# Altium schematic symbol library Converter_DCDC.SchLib: 544 symbols (part 3 of 6)
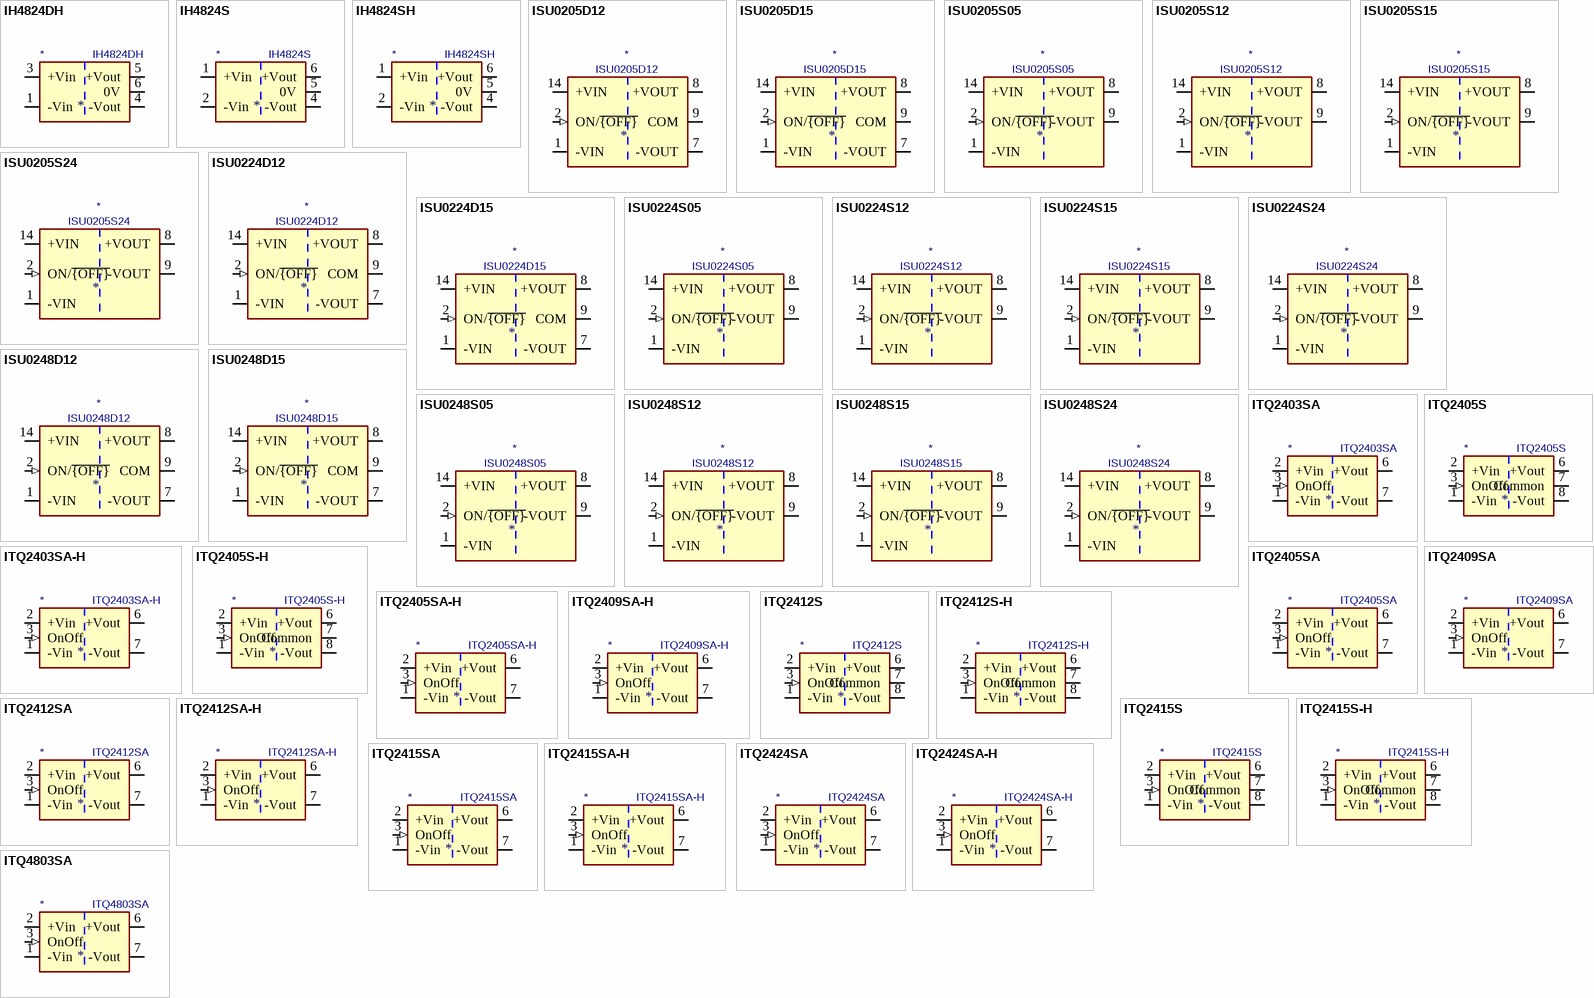
[diagram p15: symbols IH4824DH to ITQ4803SA]

## ITQ2412SA-H
designator *  value ITQ2412SA-H
ki_keywords: XP_POWER DC/DC isolated Converter module; ki_description: XP Power 6W, 3000 VDC Isolated DC/DC Converter Module, Single Output Voltage 12V, ±500mA, 24V Input Voltage, SIP; ki_fp_filters: *XP?POWER?ITQxxxxS?H*; Footprint: Converter_DCDC:Converter_DCDC_XP_POWER-ITQxxxxS-H_THT; Supplier: https://www.xppower.com/pdfs/SF_ITQ.pdf
footprint Converter_DCDC_XP_POWER-ITQxxxxS-H_THT
pins: 1 -Vin (power), 2 +Vin (power), 3 OnOff (in), 6 +Vout (power), 7 -Vout (power), 8 NC (in) hidden

## ITQ2415S
designator *  value ITQ2415S
ki_keywords: XP_POWER DC/DC isolated Converter module; ki_description: XP Power 6W, 1000 VDC Isolated DC/DC Converter Module, Dual Output Voltage ±15V, ±200mA, 24V Input Voltage, SIP; ki_fp_filters: *XP?POWER?ITxxxxx*; Footprint: Converter_DCDC:Converter_DCDC_XP_POWER-ITxxxxxS_THT; Supplier: https://www.xppower.com/pdfs/SF_ITQ.pdf
footprint Converter_DCDC_XP_POWER-ITxxxxxS_THT
pins: 1 -Vin (power), 2 +Vin (power), 3 OnOff (in), 5 NC (in) hidden, 6 +Vout (power), 7 Common (power), 8 -Vout (power)

## ITQ2415S-H
designator *  value ITQ2415S-H
ki_keywords: XP_POWER DC/DC isolated Converter module; ki_description: XP Power 6W, 3000 VDC Isolated DC/DC Converter Module, Dual Output Voltage ±15V, ±200mA, 24V Input Voltage, SIP; ki_fp_filters: *XP?POWER?ITQxxxxS?H*; Footprint: Converter_DCDC:Converter_DCDC_XP_POWER-ITQxxxxS-H_THT; Supplier: https://www.xppower.com/pdfs/SF_ITQ.pdf
footprint Converter_DCDC_XP_POWER-ITQxxxxS-H_THT
pins: 1 -Vin (power), 2 +Vin (power), 3 OnOff (in), 6 +Vout (power), 7 Common (power), 8 -Vout (power)

## ITQ2415SA
designator *  value ITQ2415SA
ki_keywords: XP_POWER DC/DC isolated Converter module; ki_description: XP Power 6W, 1000 VDC Isolated DC/DC Converter Module, Single Output Voltage 15V, ±400mA, 24V Input Voltage, SIP; ki_fp_filters: *XP?POWER?ITxxxxx*; Footprint: Converter_DCDC:Converter_DCDC_XP_POWER-ITxxxxxS_THT; Supplier: https://www.xppower.com/pdfs/SF_ITQ.pdf
footprint Converter_DCDC_XP_POWER-ITxxxxxS_THT
pins: 1 -Vin (power), 2 +Vin (power), 3 OnOff (in), 5 NC (in) hidden, 6 +Vout (power), 7 -Vout (power), 8 NC (in) hidden

## ITQ2415SA-H
designator *  value ITQ2415SA-H
ki_keywords: XP_POWER DC/DC isolated Converter module; ki_description: XP Power 6W, 3000 VDC Isolated DC/DC Converter Module, Single Output Voltage 15V, ±400mA, 24V Input Voltage, SIP; ki_fp_filters: *XP?POWER?ITQxxxxS?H*; Footprint: Converter_DCDC:Converter_DCDC_XP_POWER-ITQxxxxS-H_THT; Supplier: https://www.xppower.com/pdfs/SF_ITQ.pdf
footprint Converter_DCDC_XP_POWER-ITQxxxxS-H_THT
pins: 1 -Vin (power), 2 +Vin (power), 3 OnOff (in), 6 +Vout (power), 7 -Vout (power), 8 NC (in) hidden

## ITQ2424SA
designator *  value ITQ2424SA
ki_keywords: XP_POWER DC/DC isolated Converter module; ki_description: XP Power 6W, 1000 VDC Isolated DC/DC Converter Module, Single Output Voltage 24V, ±250mA, 24V Input Voltage, SIP; ki_fp_filters: *XP?POWER?ITxxxxx*; Footprint: Converter_DCDC:Converter_DCDC_XP_POWER-ITxxxxxS_THT; Supplier: https://www.xppower.com/pdfs/SF_ITQ.pdf
footprint Converter_DCDC_XP_POWER-ITxxxxxS_THT
pins: 1 -Vin (power), 2 +Vin (power), 3 OnOff (in), 5 NC (in) hidden, 6 +Vout (power), 7 -Vout (power), 8 NC (in) hidden

## ITQ2424SA-H
designator *  value ITQ2424SA-H
ki_keywords: XP_POWER DC/DC isolated Converter module; ki_description: XP Power 6W, 3000 VDC Isolated DC/DC Converter Module, Single Output Voltage 24V, ±250mA, 24V Input Voltage, SIP; ki_fp_filters: *XP?POWER?ITQxxxxS?H*; Footprint: Converter_DCDC:Converter_DCDC_XP_POWER-ITQxxxxS-H_THT; Supplier: https://www.xppower.com/pdfs/SF_ITQ.pdf
footprint Converter_DCDC_XP_POWER-ITQxxxxS-H_THT
pins: 1 -Vin (power), 2 +Vin (power), 3 OnOff (in), 6 +Vout (power), 7 -Vout (power), 8 NC (in) hidden

## ITQ4803SA
designator *  value ITQ4803SA
ki_keywords: XP_POWER DC/DC isolated Converter module; ki_description: XP Power 6W, 1000 VDC Isolated DC/DC Converter Module, Single Output Voltage 3.3V, ±1500mA, 48V Input Voltage, SIP; ki_fp_filters: *XP?POWER?ITxxxxx*; Footprint: Converter_DCDC:Converter_DCDC_XP_POWER-ITxxxxxS_THT; Supplier: https://www.xppower.com/pdfs/SF_ITQ.pdf
footprint Converter_DCDC_XP_POWER-ITxxxxxS_THT
pins: 1 -Vin (power), 2 +Vin (power), 3 OnOff (in), 5 NC (in) hidden, 6 +Vout (power), 7 -Vout (power), 8 NC (in) hidden

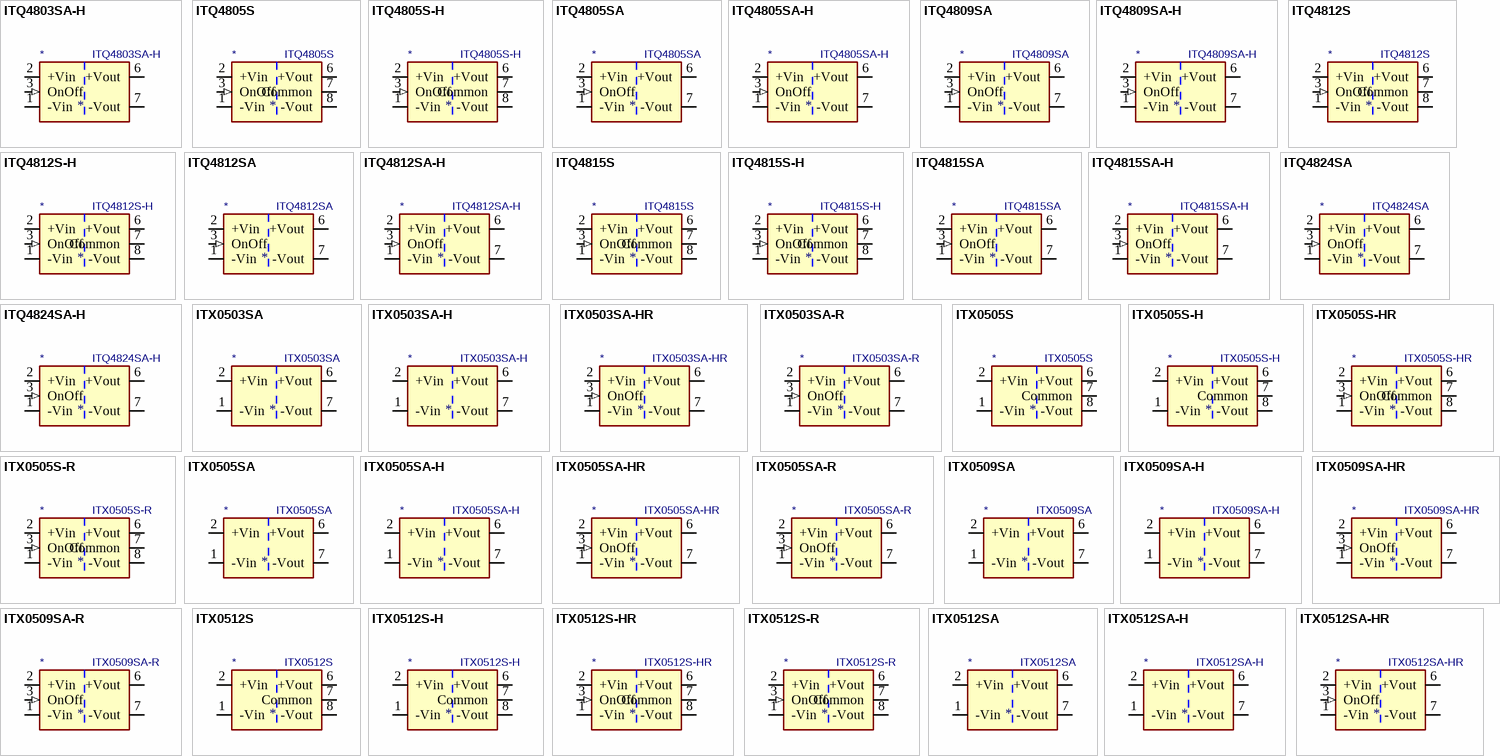
[diagram p5: symbols ITQ4803SA-H to ITX0512SA-HR]

## ITQ4803SA-H
designator *  value ITQ4803SA-H
ki_keywords: XP_POWER DC/DC isolated Converter module; ki_description: XP Power 6W, 3000 VDC Isolated DC/DC Converter Module, Single Output Voltage 3.3V, ±1500mA, 48V Input Voltage, SIP; ki_fp_filters: *XP?POWER?ITQxxxxS?H*; Footprint: Converter_DCDC:Converter_DCDC_XP_POWER-ITQxxxxS-H_THT; Supplier: https://www.xppower.com/pdfs/SF_ITQ.pdf
footprint Converter_DCDC_XP_POWER-ITQxxxxS-H_THT
pins: 1 -Vin (power), 2 +Vin (power), 3 OnOff (in), 6 +Vout (power), 7 -Vout (power), 8 NC (in) hidden

## ITQ4805S
designator *  value ITQ4805S
ki_keywords: XP_POWER DC/DC isolated Converter module; ki_description: XP Power 6W, 1000 VDC Isolated DC/DC Converter Module, Dual Output Voltage ±5V, ±600mA, 48V Input Voltage, SIP; ki_fp_filters: *XP?POWER?ITxxxxx*; Footprint: Converter_DCDC:Converter_DCDC_XP_POWER-ITxxxxxS_THT; Supplier: https://www.xppower.com/pdfs/SF_ITQ.pdf
footprint Converter_DCDC_XP_POWER-ITxxxxxS_THT
pins: 1 -Vin (power), 2 +Vin (power), 3 OnOff (in), 5 NC (in) hidden, 6 +Vout (power), 7 Common (power), 8 -Vout (power)

## ITQ4805S-H
designator *  value ITQ4805S-H
ki_keywords: XP_POWER DC/DC isolated Converter module; ki_description: XP Power 6W, 3000 VDC Isolated DC/DC Converter Module, Dual Output Voltage ±5V, ±600mA, 48V Input Voltage, SIP; ki_fp_filters: *XP?POWER?ITQxxxxS?H*; Footprint: Converter_DCDC:Converter_DCDC_XP_POWER-ITQxxxxS-H_THT; Supplier: https://www.xppower.com/pdfs/SF_ITQ.pdf
footprint Converter_DCDC_XP_POWER-ITQxxxxS-H_THT
pins: 1 -Vin (power), 2 +Vin (power), 3 OnOff (in), 6 +Vout (power), 7 Common (power), 8 -Vout (power)

## ITQ4805SA
designator *  value ITQ4805SA
ki_keywords: XP_POWER DC/DC isolated Converter module; ki_description: XP Power 6W, 1000 VDC Isolated DC/DC Converter Module, Single Output Voltage 5V, ±1200mA, 48V Input Voltage, SIP; ki_fp_filters: *XP?POWER?ITxxxxx*; Footprint: Converter_DCDC:Converter_DCDC_XP_POWER-ITxxxxxS_THT; Supplier: https://www.xppower.com/pdfs/SF_ITQ.pdf
footprint Converter_DCDC_XP_POWER-ITxxxxxS_THT
pins: 1 -Vin (power), 2 +Vin (power), 3 OnOff (in), 5 NC (in) hidden, 6 +Vout (power), 7 -Vout (power), 8 NC (in) hidden

## ITQ4805SA-H
designator *  value ITQ4805SA-H
ki_keywords: XP_POWER DC/DC isolated Converter module; ki_description: XP Power 6W, 3000 VDC Isolated DC/DC Converter Module, Single Output Voltage 5V, ±1200mA, 48V Input Voltage, SIP; ki_fp_filters: *XP?POWER?ITQxxxxS?H*; Footprint: Converter_DCDC:Converter_DCDC_XP_POWER-ITQxxxxS-H_THT; Supplier: https://www.xppower.com/pdfs/SF_ITQ.pdf
footprint Converter_DCDC_XP_POWER-ITQxxxxS-H_THT
pins: 1 -Vin (power), 2 +Vin (power), 3 OnOff (in), 6 +Vout (power), 7 -Vout (power), 8 NC (in) hidden

## ITQ4809SA
designator *  value ITQ4809SA
ki_keywords: XP_POWER DC/DC isolated Converter module; ki_description: XP Power 6W, 1000 VDC Isolated DC/DC Converter Module, Single Output Voltage 9V, ±666mA, 48V Input Voltage, SIP; ki_fp_filters: *XP?POWER?ITxxxxx*; Footprint: Converter_DCDC:Converter_DCDC_XP_POWER-ITxxxxxS_THT; Supplier: https://www.xppower.com/pdfs/SF_ITQ.pdf
footprint Converter_DCDC_XP_POWER-ITxxxxxS_THT
pins: 1 -Vin (power), 2 +Vin (power), 3 OnOff (in), 5 NC (in) hidden, 6 +Vout (power), 7 -Vout (power), 8 NC (in) hidden

## ITQ4809SA-H
designator *  value ITQ4809SA-H
ki_keywords: XP_POWER DC/DC isolated Converter module; ki_description: XP Power 6W, 3000 VDC Isolated DC/DC Converter Module, Single Output Voltage 9V, ±666mA, 48V Input Voltage, SIP; ki_fp_filters: *XP?POWER?ITQxxxxS?H*; Footprint: Converter_DCDC:Converter_DCDC_XP_POWER-ITQxxxxS-H_THT; Supplier: https://www.xppower.com/pdfs/SF_ITQ.pdf
footprint Converter_DCDC_XP_POWER-ITQxxxxS-H_THT
pins: 1 -Vin (power), 2 +Vin (power), 3 OnOff (in), 6 +Vout (power), 7 -Vout (power), 8 NC (in) hidden

## ITQ4812S
designator *  value ITQ4812S
ki_keywords: XP_POWER DC/DC isolated Converter module; ki_description: XP Power 6W, 1000 VDC Isolated DC/DC Converter Module, Dual Output Voltage ±12V, ±250mA, 48V Input Voltage, SIP; ki_fp_filters: *XP?POWER?ITxxxxx*; Footprint: Converter_DCDC:Converter_DCDC_XP_POWER-ITxxxxxS_THT; Supplier: https://www.xppower.com/pdfs/SF_ITQ.pdf
footprint Converter_DCDC_XP_POWER-ITxxxxxS_THT
pins: 1 -Vin (power), 2 +Vin (power), 3 OnOff (in), 5 NC (in) hidden, 6 +Vout (power), 7 Common (power), 8 -Vout (power)

## ITQ4812S-H
designator *  value ITQ4812S-H
ki_keywords: XP_POWER DC/DC isolated Converter module; ki_description: XP Power 6W, 3000 VDC Isolated DC/DC Converter Module, Dual Output Voltage ±12V, ±250mA, 48V Input Voltage, SIP; ki_fp_filters: *XP?POWER?ITQxxxxS?H*; Footprint: Converter_DCDC:Converter_DCDC_XP_POWER-ITQxxxxS-H_THT; Supplier: https://www.xppower.com/pdfs/SF_ITQ.pdf
footprint Converter_DCDC_XP_POWER-ITQxxxxS-H_THT
pins: 1 -Vin (power), 2 +Vin (power), 3 OnOff (in), 6 +Vout (power), 7 Common (power), 8 -Vout (power)

## ITQ4812SA
designator *  value ITQ4812SA
ki_keywords: XP_POWER DC/DC isolated Converter module; ki_description: XP Power 6W, 1000 VDC Isolated DC/DC Converter Module, Single Output Voltage 12V, ±500mA, 48V Input Voltage, SIP; ki_fp_filters: *XP?POWER?ITxxxxx*; Footprint: Converter_DCDC:Converter_DCDC_XP_POWER-ITxxxxxS_THT; Supplier: https://www.xppower.com/pdfs/SF_ITQ.pdf
footprint Converter_DCDC_XP_POWER-ITxxxxxS_THT
pins: 1 -Vin (power), 2 +Vin (power), 3 OnOff (in), 5 NC (in) hidden, 6 +Vout (power), 7 -Vout (power), 8 NC (in) hidden

## ITQ4812SA-H
designator *  value ITQ4812SA-H
ki_keywords: XP_POWER DC/DC isolated Converter module; ki_description: XP Power 6W, 3000 VDC Isolated DC/DC Converter Module, Single Output Voltage 12V, ±500mA, 48V Input Voltage, SIP; ki_fp_filters: *XP?POWER?ITQxxxxS?H*; Footprint: Converter_DCDC:Converter_DCDC_XP_POWER-ITQxxxxS-H_THT; Supplier: https://www.xppower.com/pdfs/SF_ITQ.pdf
footprint Converter_DCDC_XP_POWER-ITQxxxxS-H_THT
pins: 1 -Vin (power), 2 +Vin (power), 3 OnOff (in), 6 +Vout (power), 7 -Vout (power), 8 NC (in) hidden

## ITQ4815S
designator *  value ITQ4815S
ki_keywords: XP_POWER DC/DC isolated Converter module; ki_description: XP Power 6W, 1000 VDC Isolated DC/DC Converter Module, Dual Output Voltage ±15V, ±200mA, 48V Input Voltage, SIP; ki_fp_filters: *XP?POWER?ITxxxxx*; Footprint: Converter_DCDC:Converter_DCDC_XP_POWER-ITxxxxxS_THT; Supplier: https://www.xppower.com/pdfs/SF_ITQ.pdf
footprint Converter_DCDC_XP_POWER-ITxxxxxS_THT
pins: 1 -Vin (power), 2 +Vin (power), 3 OnOff (in), 5 NC (in) hidden, 6 +Vout (power), 7 Common (power), 8 -Vout (power)

## ITQ4815S-H
designator *  value ITQ4815S-H
ki_keywords: XP_POWER DC/DC isolated Converter module; ki_description: XP Power 6W, 3000 VDC Isolated DC/DC Converter Module, Dual Output Voltage ±15V, ±200mA, 48V Input Voltage, SIP; ki_fp_filters: *XP?POWER?ITQxxxxS?H*; Footprint: Converter_DCDC:Converter_DCDC_XP_POWER-ITQxxxxS-H_THT; Supplier: https://www.xppower.com/pdfs/SF_ITQ.pdf
footprint Converter_DCDC_XP_POWER-ITQxxxxS-H_THT
pins: 1 -Vin (power), 2 +Vin (power), 3 OnOff (in), 6 +Vout (power), 7 Common (power), 8 -Vout (power)

## ITQ4815SA
designator *  value ITQ4815SA
ki_keywords: XP_POWER DC/DC isolated Converter module; ki_description: XP Power 6W, 1000 VDC Isolated DC/DC Converter Module, Single Output Voltage 15V, ±400mA, 48V Input Voltage, SIP; ki_fp_filters: *XP?POWER?ITxxxxx*; Footprint: Converter_DCDC:Converter_DCDC_XP_POWER-ITxxxxxS_THT; Supplier: https://www.xppower.com/pdfs/SF_ITQ.pdf
footprint Converter_DCDC_XP_POWER-ITxxxxxS_THT
pins: 1 -Vin (power), 2 +Vin (power), 3 OnOff (in), 5 NC (in) hidden, 6 +Vout (power), 7 -Vout (power), 8 NC (in) hidden

## ITQ4815SA-H
designator *  value ITQ4815SA-H
ki_keywords: XP_POWER DC/DC isolated Converter module; ki_description: XP Power 6W, 3000 VDC Isolated DC/DC Converter Module, Single Output Voltage 15V, ±400mA, 48V Input Voltage, SIP; ki_fp_filters: *XP?POWER?ITQxxxxS?H*; Footprint: Converter_DCDC:Converter_DCDC_XP_POWER-ITQxxxxS-H_THT; Supplier: https://www.xppower.com/pdfs/SF_ITQ.pdf
footprint Converter_DCDC_XP_POWER-ITQxxxxS-H_THT
pins: 1 -Vin (power), 2 +Vin (power), 3 OnOff (in), 6 +Vout (power), 7 -Vout (power), 8 NC (in) hidden

## ITQ4824SA
designator *  value ITQ4824SA
ki_keywords: XP_POWER DC/DC isolated Converter module; ki_description: XP Power 6W, 1000 VDC Isolated DC/DC Converter Module, Single Output Voltage 24V, ±250mA, 48V Input Voltage, SIP; ki_fp_filters: *XP?POWER?ITxxxxx*; Footprint: Converter_DCDC:Converter_DCDC_XP_POWER-ITxxxxxS_THT; Supplier: https://www.xppower.com/pdfs/SF_ITQ.pdf
footprint Converter_DCDC_XP_POWER-ITxxxxxS_THT
pins: 1 -Vin (power), 2 +Vin (power), 3 OnOff (in), 5 NC (in) hidden, 6 +Vout (power), 7 -Vout (power), 8 NC (in) hidden

## ITQ4824SA-H
designator *  value ITQ4824SA-H
ki_keywords: XP_POWER DC/DC isolated Converter module; ki_description: XP Power 6W, 3000 VDC Isolated DC/DC Converter Module, Single Output Voltage 24V, ±250mA, 48V Input Voltage, SIP; ki_fp_filters: *XP?POWER?ITQxxxxS?H*; Footprint: Converter_DCDC:Converter_DCDC_XP_POWER-ITQxxxxS-H_THT; Supplier: https://www.xppower.com/pdfs/SF_ITQ.pdf
footprint Converter_DCDC_XP_POWER-ITQxxxxS-H_THT
pins: 1 -Vin (power), 2 +Vin (power), 3 OnOff (in), 6 +Vout (power), 7 -Vout (power), 8 NC (in) hidden

## ITX0503SA
designator *  value ITX0503SA
ki_keywords: XP_POWER DC/DC isolated Converter module; ki_description: XP Power 6W, 1000 VDC Isolated DC/DC Converter Module, Fully Regulated Single Output Voltage 3.3V, ±1300mA, 5V Input Voltage, SIP; ki_fp_filters: *XP?POWER?ITXxxxxSA*; Footprint: Converter_DCDC:Converter_DCDC_XP_POWER-ITXxxxxSA_THT; Supplier: https://www.xppower.com/pdfs/SF_ITX.pdf
footprint Converter_DCDC_XP_POWER-ITXxxxxSA_THT
pins: 1 -Vin (power), 2 +Vin (power), 6 +Vout (power), 7 -Vout (power), 8 NC (in) hidden

## ITX0503SA-H
designator *  value ITX0503SA-H
ki_keywords: XP_POWER DC/DC isolated Converter module; ki_description: XP Power 6W, 3000 VDC Isolated DC/DC Converter Module, Fully Regulated Single Output Voltage 3.3V, ±1300mA, 5V Input Voltage, SIP; ki_fp_filters: *XP?POWER?ITXxxxxSA*; Footprint: Converter_DCDC:Converter_DCDC_XP_POWER-ITXxxxxSA_THT; Supplier: https://www.xppower.com/pdfs/SF_ITX.pdf
footprint Converter_DCDC_XP_POWER-ITXxxxxSA_THT
pins: 1 -Vin (power), 2 +Vin (power), 6 +Vout (power), 7 -Vout (power), 8 NC (in) hidden

## ITX0503SA-HR
designator *  value ITX0503SA-HR
ki_keywords: XP_POWER DC/DC isolated Converter module; ki_description: XP Power 6W, 3000 VDC Isolated DC/DC Converter Module, Remote Control, Fully Regulated Single Output Voltage 3.3V, ±1300mA, 5V Input Voltage, SIP; ki_fp_filters: *XP?POWER?ITxxxxx*; Footprint: Converter_DCDC:Converter_DCDC_XP_POWER-ITxxxxxS_THT; Supplier: https://www.xppower.com/pdfs/SF_ITX.pdf
footprint Converter_DCDC_XP_POWER-ITxxxxxS_THT
pins: 1 -Vin (power), 2 +Vin (power), 3 OnOff (in), 5 NC (in) hidden, 6 +Vout (power), 7 -Vout (power), 8 NC (in) hidden

## ITX0503SA-R
designator *  value ITX0503SA-R
ki_keywords: XP_POWER DC/DC isolated Converter module; ki_description: XP Power 6W, 1000 VDC Isolated DC/DC Converter Module, Remote Control, Fully Regulated Single Output Voltage 3.3V, ±1300mA, 5V Input Voltage, SIP; ki_fp_filters: *XP?POWER?ITxxxxx*; Footprint: Converter_DCDC:Converter_DCDC_XP_POWER-ITxxxxxS_THT; Supplier: https://www.xppower.com/pdfs/SF_ITX.pdf
footprint Converter_DCDC_XP_POWER-ITxxxxxS_THT
pins: 1 -Vin (power), 2 +Vin (power), 3 OnOff (in), 5 NC (in) hidden, 6 +Vout (power), 7 -Vout (power), 8 NC (in) hidden

## ITX0505S
designator *  value ITX0505S
ki_keywords: XP_POWER DC/DC isolated Converter module; ki_description: XP Power 6W, 1000 VDC Isolated DC/DC Converter Module, Fully Regulated Dual Output Voltage ±5V, ±600mA, 5V Input Voltage, SIP; ki_fp_filters: *XP?POWER?ITxxxxx*; Footprint: Converter_DCDC:Converter_DCDC_XP_POWER-ITxxxxxS_THT; Supplier: https://www.xppower.com/pdfs/SF_ITX.pdf
footprint Converter_DCDC_XP_POWER-ITxxxxxS_THT
pins: 1 -Vin (power), 2 +Vin (power), 3 NC (in) hidden, 5 NC (in) hidden, 6 +Vout (power), 7 Common (power), 8 -Vout (power)

## ITX0505S-H
designator *  value ITX0505S-H
ki_keywords: XP_POWER DC/DC isolated Converter module; ki_description: XP Power 6W, 3000 VDC Isolated DC/DC Converter Module, Fully Regulated Dual Output Voltage ±5V, ±600mA, 5V Input Voltage, SIP; ki_fp_filters: *XP?POWER?ITxxxxx*; Footprint: Converter_DCDC:Converter_DCDC_XP_POWER-ITxxxxxS_THT; Supplier: https://www.xppower.com/pdfs/SF_ITX.pdf
footprint Converter_DCDC_XP_POWER-ITxxxxxS_THT
pins: 1 -Vin (power), 2 +Vin (power), 3 NC (in) hidden, 5 NC (in) hidden, 6 +Vout (power), 7 Common (power), 8 -Vout (power)

## ITX0505S-HR
designator *  value ITX0505S-HR
ki_keywords: XP_POWER DC/DC isolated Converter module; ki_description: XP Power 6W, 3000 VDC Isolated DC/DC Converter Module, Remote Control, Fully Regulated Dual Output Voltage ±5V, ±600mA, 5V Input Voltage, SIP; ki_fp_filters: *XP?POWER?ITxxxxx*; Footprint: Converter_DCDC:Converter_DCDC_XP_POWER-ITxxxxxS_THT; Supplier: https://www.xppower.com/pdfs/SF_ITX.pdf
footprint Converter_DCDC_XP_POWER-ITxxxxxS_THT
pins: 1 -Vin (power), 2 +Vin (power), 3 OnOff (in), 5 NC (in) hidden, 6 +Vout (power), 7 Common (power), 8 -Vout (power)

## ITX0505S-R
designator *  value ITX0505S-R
ki_keywords: XP_POWER DC/DC isolated Converter module; ki_description: XP Power 6W, 1000 VDC Isolated DC/DC Converter Module, Remote Control, Fully Regulated Dual Output Voltage ±5V, ±600mA, 5V Input Voltage, SIP; ki_fp_filters: *XP?POWER?ITxxxxx*; Footprint: Converter_DCDC:Converter_DCDC_XP_POWER-ITxxxxxS_THT; Supplier: https://www.xppower.com/pdfs/SF_ITX.pdf
footprint Converter_DCDC_XP_POWER-ITxxxxxS_THT
pins: 1 -Vin (power), 2 +Vin (power), 3 OnOff (in), 5 NC (in) hidden, 6 +Vout (power), 7 Common (power), 8 -Vout (power)

## ITX0505SA
designator *  value ITX0505SA
ki_keywords: XP_POWER DC/DC isolated Converter module; ki_description: XP Power 6W, 1000 VDC Isolated DC/DC Converter Module, Fully Regulated Single Output Voltage 5V, ±1200mA, 5V Input Voltage, SIP; ki_fp_filters: *XP?POWER?ITXxxxxSA*; Footprint: Converter_DCDC:Converter_DCDC_XP_POWER-ITXxxxxSA_THT; Supplier: https://www.xppower.com/pdfs/SF_ITX.pdf
footprint Converter_DCDC_XP_POWER-ITXxxxxSA_THT
pins: 1 -Vin (power), 2 +Vin (power), 6 +Vout (power), 7 -Vout (power), 8 NC (in) hidden

## ITX0505SA-H
designator *  value ITX0505SA-H
ki_keywords: XP_POWER DC/DC isolated Converter module; ki_description: XP Power 6W, 3000 VDC Isolated DC/DC Converter Module, Fully Regulated Single Output Voltage 5V, ±1200mA, 5V Input Voltage, SIP; ki_fp_filters: *XP?POWER?ITXxxxxSA*; Footprint: Converter_DCDC:Converter_DCDC_XP_POWER-ITXxxxxSA_THT; Supplier: https://www.xppower.com/pdfs/SF_ITX.pdf
footprint Converter_DCDC_XP_POWER-ITXxxxxSA_THT
pins: 1 -Vin (power), 2 +Vin (power), 6 +Vout (power), 7 -Vout (power), 8 NC (in) hidden

## ITX0505SA-HR
designator *  value ITX0505SA-HR
ki_keywords: XP_POWER DC/DC isolated Converter module; ki_description: XP Power 6W, 3000 VDC Isolated DC/DC Converter Module, Remote Control, Fully Regulated Single Output Voltage 5V, ±1200mA, 5V Input Voltage, SIP; ki_fp_filters: *XP?POWER?ITxxxxx*; Footprint: Converter_DCDC:Converter_DCDC_XP_POWER-ITxxxxxS_THT; Supplier: https://www.xppower.com/pdfs/SF_ITX.pdf
footprint Converter_DCDC_XP_POWER-ITxxxxxS_THT
pins: 1 -Vin (power), 2 +Vin (power), 3 OnOff (in), 5 NC (in) hidden, 6 +Vout (power), 7 -Vout (power), 8 NC (in) hidden

## ITX0505SA-R
designator *  value ITX0505SA-R
ki_keywords: XP_POWER DC/DC isolated Converter module; ki_description: XP Power 6W, 1000 VDC Isolated DC/DC Converter Module, Remote Control, Fully Regulated Single Output Voltage 5V, ±1200mA, 5V Input Voltage, SIP; ki_fp_filters: *XP?POWER?ITxxxxx*; Footprint: Converter_DCDC:Converter_DCDC_XP_POWER-ITxxxxxS_THT; Supplier: https://www.xppower.com/pdfs/SF_ITX.pdf
footprint Converter_DCDC_XP_POWER-ITxxxxxS_THT
pins: 1 -Vin (power), 2 +Vin (power), 3 OnOff (in), 5 NC (in) hidden, 6 +Vout (power), 7 -Vout (power), 8 NC (in) hidden

## ITX0509SA
designator *  value ITX0509SA
ki_keywords: XP_POWER DC/DC isolated Converter module; ki_description: XP Power 6W, 1000 VDC Isolated DC/DC Converter Module, Fully Regulated Single Output Voltage 9V, ±666mA, 5V Input Voltage, SIP; ki_fp_filters: *XP?POWER?ITXxxxxSA*; Footprint: Converter_DCDC:Converter_DCDC_XP_POWER-ITXxxxxSA_THT; Supplier: https://www.xppower.com/pdfs/SF_ITX.pdf
footprint Converter_DCDC_XP_POWER-ITXxxxxSA_THT
pins: 1 -Vin (power), 2 +Vin (power), 6 +Vout (power), 7 -Vout (power), 8 NC (in) hidden

## ITX0509SA-H
designator *  value ITX0509SA-H
ki_keywords: XP_POWER DC/DC isolated Converter module; ki_description: XP Power 6W, 3000 VDC Isolated DC/DC Converter Module, Fully Regulated Single Output Voltage 9V, ±666mA, 5V Input Voltage, SIP; ki_fp_filters: *XP?POWER?ITXxxxxSA*; Footprint: Converter_DCDC:Converter_DCDC_XP_POWER-ITXxxxxSA_THT; Supplier: https://www.xppower.com/pdfs/SF_ITX.pdf
footprint Converter_DCDC_XP_POWER-ITXxxxxSA_THT
pins: 1 -Vin (power), 2 +Vin (power), 6 +Vout (power), 7 -Vout (power), 8 NC (in) hidden

## ITX0509SA-HR
designator *  value ITX0509SA-HR
ki_keywords: XP_POWER DC/DC isolated Converter module; ki_description: XP Power 6W, 3000 VDC Isolated DC/DC Converter Module, Remote Control, Fully Regulated Single Output Voltage 9V, ±666mA, 5V Input Voltage, SIP; ki_fp_filters: *XP?POWER?ITxxxxx*; Footprint: Converter_DCDC:Converter_DCDC_XP_POWER-ITxxxxxS_THT; Supplier: https://www.xppower.com/pdfs/SF_ITX.pdf
footprint Converter_DCDC_XP_POWER-ITxxxxxS_THT
pins: 1 -Vin (power), 2 +Vin (power), 3 OnOff (in), 5 NC (in) hidden, 6 +Vout (power), 7 -Vout (power), 8 NC (in) hidden

## ITX0509SA-R
designator *  value ITX0509SA-R
ki_keywords: XP_POWER DC/DC isolated Converter module; ki_description: XP Power 6W, 1000 VDC Isolated DC/DC Converter Module, Remote Control, Fully Regulated Single Output Voltage 9V, ±666mA, 5V Input Voltage, SIP; ki_fp_filters: *XP?POWER?ITxxxxx*; Footprint: Converter_DCDC:Converter_DCDC_XP_POWER-ITxxxxxS_THT; Supplier: https://www.xppower.com/pdfs/SF_ITX.pdf
footprint Converter_DCDC_XP_POWER-ITxxxxxS_THT
pins: 1 -Vin (power), 2 +Vin (power), 3 OnOff (in), 5 NC (in) hidden, 6 +Vout (power), 7 -Vout (power), 8 NC (in) hidden

## ITX0512S
designator *  value ITX0512S
ki_keywords: XP_POWER DC/DC isolated Converter module; ki_description: XP Power 6W, 1000 VDC Isolated DC/DC Converter Module, Fully Regulated Dual Output Voltage ±12V, ±250mA, 5V Input Voltage, SIP; ki_fp_filters: *XP?POWER?ITxxxxx*; Footprint: Converter_DCDC:Converter_DCDC_XP_POWER-ITxxxxxS_THT; Supplier: https://www.xppower.com/pdfs/SF_ITX.pdf
footprint Converter_DCDC_XP_POWER-ITxxxxxS_THT
pins: 1 -Vin (power), 2 +Vin (power), 3 NC (in) hidden, 5 NC (in) hidden, 6 +Vout (power), 7 Common (power), 8 -Vout (power)

## ITX0512S-H
designator *  value ITX0512S-H
ki_keywords: XP_POWER DC/DC isolated Converter module; ki_description: XP Power 6W, 3000 VDC Isolated DC/DC Converter Module, Fully Regulated Dual Output Voltage ±12V, ±250mA, 5V Input Voltage, SIP; ki_fp_filters: *XP?POWER?ITxxxxx*; Footprint: Converter_DCDC:Converter_DCDC_XP_POWER-ITxxxxxS_THT; Supplier: https://www.xppower.com/pdfs/SF_ITX.pdf
footprint Converter_DCDC_XP_POWER-ITxxxxxS_THT
pins: 1 -Vin (power), 2 +Vin (power), 3 NC (in) hidden, 5 NC (in) hidden, 6 +Vout (power), 7 Common (power), 8 -Vout (power)

## ITX0512S-HR
designator *  value ITX0512S-HR
ki_keywords: XP_POWER DC/DC isolated Converter module; ki_description: XP Power 6W, 3000 VDC Isolated DC/DC Converter Module, Remote Control, Fully Regulated Dual Output Voltage ±12V, ±250mA, 5V Input Voltage, SIP; ki_fp_filters: *XP?POWER?ITxxxxx*; Footprint: Converter_DCDC:Converter_DCDC_XP_POWER-ITxxxxxS_THT; Supplier: https://www.xppower.com/pdfs/SF_ITX.pdf
footprint Converter_DCDC_XP_POWER-ITxxxxxS_THT
pins: 1 -Vin (power), 2 +Vin (power), 3 OnOff (in), 5 NC (in) hidden, 6 +Vout (power), 7 Common (power), 8 -Vout (power)

## ITX0512S-R
designator *  value ITX0512S-R
ki_keywords: XP_POWER DC/DC isolated Converter module; ki_description: XP Power 6W, 1000 VDC Isolated DC/DC Converter Module, Remote Control, Fully Regulated Dual Output Voltage ±12V, ±250mA, 5V Input Voltage, SIP; ki_fp_filters: *XP?POWER?ITxxxxx*; Footprint: Converter_DCDC:Converter_DCDC_XP_POWER-ITxxxxxS_THT; Supplier: https://www.xppower.com/pdfs/SF_ITX.pdf
footprint Converter_DCDC_XP_POWER-ITxxxxxS_THT
pins: 1 -Vin (power), 2 +Vin (power), 3 OnOff (in), 5 NC (in) hidden, 6 +Vout (power), 7 Common (power), 8 -Vout (power)

## ITX0512SA
designator *  value ITX0512SA
ki_keywords: XP_POWER DC/DC isolated Converter module; ki_description: XP Power 6W, 1000 VDC Isolated DC/DC Converter Module, Fully Regulated Single Output Voltage 12V, ±500mA, 5V Input Voltage, SIP; ki_fp_filters: *XP?POWER?ITXxxxxSA*; Footprint: Converter_DCDC:Converter_DCDC_XP_POWER-ITXxxxxSA_THT; Supplier: https://www.xppower.com/pdfs/SF_ITX.pdf
footprint Converter_DCDC_XP_POWER-ITXxxxxSA_THT
pins: 1 -Vin (power), 2 +Vin (power), 6 +Vout (power), 7 -Vout (power), 8 NC (in) hidden

## ITX0512SA-H
designator *  value ITX0512SA-H
ki_keywords: XP_POWER DC/DC isolated Converter module; ki_description: XP Power 6W, 3000 VDC Isolated DC/DC Converter Module, Fully Regulated Single Output Voltage 12V, ±500mA, 5V Input Voltage, SIP; ki_fp_filters: *XP?POWER?ITXxxxxSA*; Footprint: Converter_DCDC:Converter_DCDC_XP_POWER-ITXxxxxSA_THT; Supplier: https://www.xppower.com/pdfs/SF_ITX.pdf
footprint Converter_DCDC_XP_POWER-ITXxxxxSA_THT
pins: 1 -Vin (power), 2 +Vin (power), 6 +Vout (power), 7 -Vout (power), 8 NC (in) hidden

## ITX0512SA-HR
designator *  value ITX0512SA-HR
ki_keywords: XP_POWER DC/DC isolated Converter module; ki_description: XP Power 6W, 3000 VDC Isolated DC/DC Converter Module, Remote Control, Fully Regulated Single Output Voltage 12V, ±500mA, 5V Input Voltage, SIP; ki_fp_filters: *XP?POWER?ITxxxxx*; Footprint: Converter_DCDC:Converter_DCDC_XP_POWER-ITxxxxxS_THT; Supplier: https://www.xppower.com/pdfs/SF_ITX.pdf
footprint Converter_DCDC_XP_POWER-ITxxxxxS_THT
pins: 1 -Vin (power), 2 +Vin (power), 3 OnOff (in), 5 NC (in) hidden, 6 +Vout (power), 7 -Vout (power), 8 NC (in) hidden

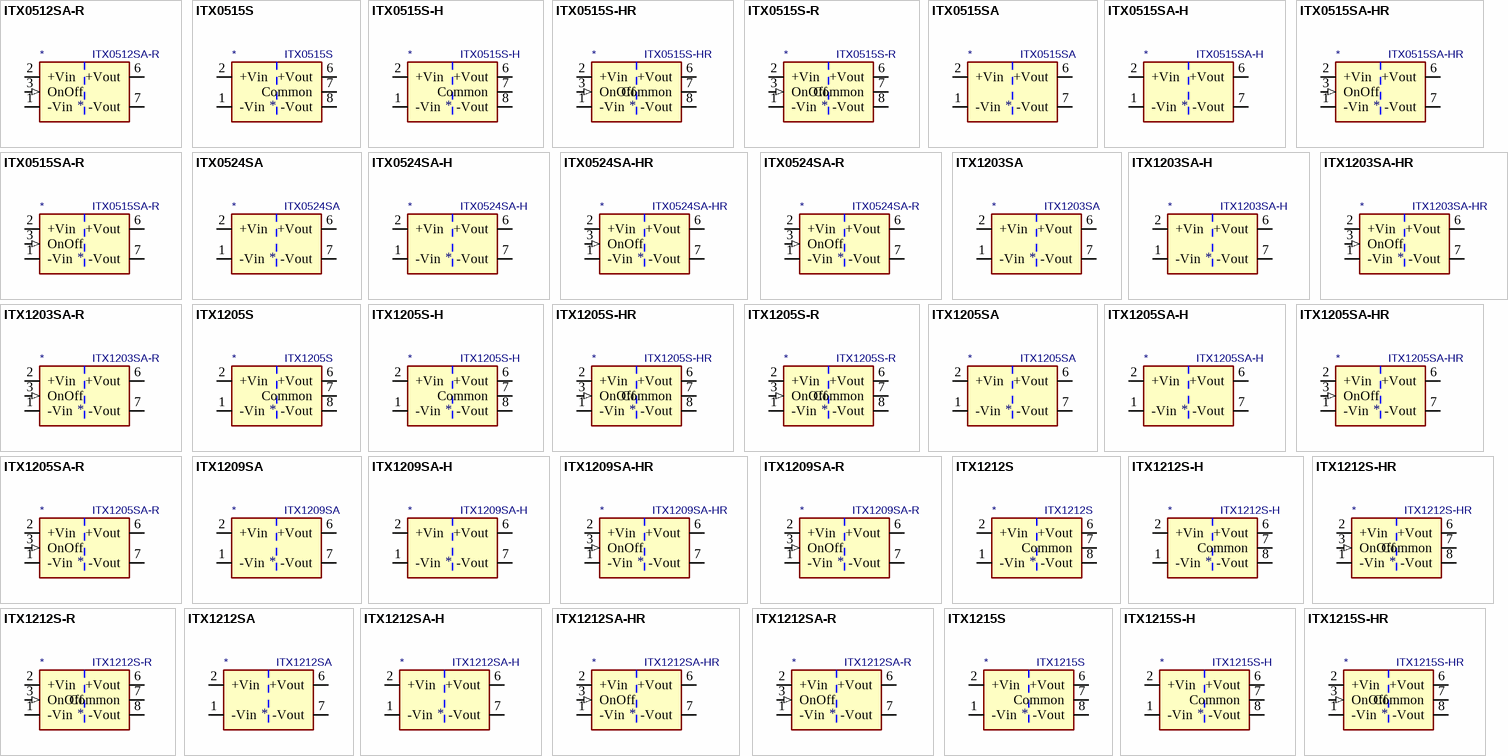
[diagram p6: symbols ITX0512SA-R to ITX1215S-HR]

## ITX0512SA-R
designator *  value ITX0512SA-R
ki_keywords: XP_POWER DC/DC isolated Converter module; ki_description: XP Power 6W, 1000 VDC Isolated DC/DC Converter Module, Remote Control, Fully Regulated Single Output Voltage 12V, ±500mA, 5V Input Voltage, SIP; ki_fp_filters: *XP?POWER?ITxxxxx*; Footprint: Converter_DCDC:Converter_DCDC_XP_POWER-ITxxxxxS_THT; Supplier: https://www.xppower.com/pdfs/SF_ITX.pdf
footprint Converter_DCDC_XP_POWER-ITxxxxxS_THT
pins: 1 -Vin (power), 2 +Vin (power), 3 OnOff (in), 5 NC (in) hidden, 6 +Vout (power), 7 -Vout (power), 8 NC (in) hidden

## ITX0515S
designator *  value ITX0515S
ki_keywords: XP_POWER DC/DC isolated Converter module; ki_description: XP Power 6W, 1000 VDC Isolated DC/DC Converter Module, Fully Regulated Dual Output Voltage ±15V, ±200mA, 5V Input Voltage, SIP; ki_fp_filters: *XP?POWER?ITxxxxx*; Footprint: Converter_DCDC:Converter_DCDC_XP_POWER-ITxxxxxS_THT; Supplier: https://www.xppower.com/pdfs/SF_ITX.pdf
footprint Converter_DCDC_XP_POWER-ITxxxxxS_THT
pins: 1 -Vin (power), 2 +Vin (power), 3 NC (in) hidden, 5 NC (in) hidden, 6 +Vout (power), 7 Common (power), 8 -Vout (power)

## ITX0515S-H
designator *  value ITX0515S-H
ki_keywords: XP_POWER DC/DC isolated Converter module; ki_description: XP Power 6W, 3000 VDC Isolated DC/DC Converter Module, Fully Regulated Dual Output Voltage ±15V, ±200mA, 5V Input Voltage, SIP; ki_fp_filters: *XP?POWER?ITxxxxx*; Footprint: Converter_DCDC:Converter_DCDC_XP_POWER-ITxxxxxS_THT; Supplier: https://www.xppower.com/pdfs/SF_ITX.pdf
footprint Converter_DCDC_XP_POWER-ITxxxxxS_THT
pins: 1 -Vin (power), 2 +Vin (power), 3 NC (in) hidden, 5 NC (in) hidden, 6 +Vout (power), 7 Common (power), 8 -Vout (power)

## ITX0515S-HR
designator *  value ITX0515S-HR
ki_keywords: XP_POWER DC/DC isolated Converter module; ki_description: XP Power 6W, 3000 VDC Isolated DC/DC Converter Module, Remote Control, Fully Regulated Dual Output Voltage ±15V, ±200mA, 5V Input Voltage, SIP; ki_fp_filters: *XP?POWER?ITxxxxx*; Footprint: Converter_DCDC:Converter_DCDC_XP_POWER-ITxxxxxS_THT; Supplier: https://www.xppower.com/pdfs/SF_ITX.pdf
footprint Converter_DCDC_XP_POWER-ITxxxxxS_THT
pins: 1 -Vin (power), 2 +Vin (power), 3 OnOff (in), 5 NC (in) hidden, 6 +Vout (power), 7 Common (power), 8 -Vout (power)

## ITX0515S-R
designator *  value ITX0515S-R
ki_keywords: XP_POWER DC/DC isolated Converter module; ki_description: XP Power 6W, 1000 VDC Isolated DC/DC Converter Module, Remote Control, Fully Regulated Dual Output Voltage ±15V, ±200mA, 5V Input Voltage, SIP; ki_fp_filters: *XP?POWER?ITxxxxx*; Footprint: Converter_DCDC:Converter_DCDC_XP_POWER-ITxxxxxS_THT; Supplier: https://www.xppower.com/pdfs/SF_ITX.pdf
footprint Converter_DCDC_XP_POWER-ITxxxxxS_THT
pins: 1 -Vin (power), 2 +Vin (power), 3 OnOff (in), 5 NC (in) hidden, 6 +Vout (power), 7 Common (power), 8 -Vout (power)

## ITX0515SA
designator *  value ITX0515SA
ki_keywords: XP_POWER DC/DC isolated Converter module; ki_description: XP Power 6W, 1000 VDC Isolated DC/DC Converter Module, Fully Regulated Single Output Voltage 15V, ±400mA, 5V Input Voltage, SIP; ki_fp_filters: *XP?POWER?ITXxxxxSA*; Footprint: Converter_DCDC:Converter_DCDC_XP_POWER-ITXxxxxSA_THT; Supplier: https://www.xppower.com/pdfs/SF_ITX.pdf
footprint Converter_DCDC_XP_POWER-ITXxxxxSA_THT
pins: 1 -Vin (power), 2 +Vin (power), 6 +Vout (power), 7 -Vout (power), 8 NC (in) hidden

## ITX0515SA-H
designator *  value ITX0515SA-H
ki_keywords: XP_POWER DC/DC isolated Converter module; ki_description: XP Power 6W, 3000 VDC Isolated DC/DC Converter Module, Fully Regulated Single Output Voltage 15V, ±400mA, 5V Input Voltage, SIP; ki_fp_filters: *XP?POWER?ITXxxxxSA*; Footprint: Converter_DCDC:Converter_DCDC_XP_POWER-ITXxxxxSA_THT; Supplier: https://www.xppower.com/pdfs/SF_ITX.pdf
footprint Converter_DCDC_XP_POWER-ITXxxxxSA_THT
pins: 1 -Vin (power), 2 +Vin (power), 6 +Vout (power), 7 -Vout (power), 8 NC (in) hidden

## ITX0515SA-HR
designator *  value ITX0515SA-HR
ki_keywords: XP_POWER DC/DC isolated Converter module; ki_description: XP Power 6W, 3000 VDC Isolated DC/DC Converter Module, Remote Control, Fully Regulated Single Output Voltage 15V, ±400mA, 5V Input Voltage, SIP; ki_fp_filters: *XP?POWER?ITxxxxx*; Footprint: Converter_DCDC:Converter_DCDC_XP_POWER-ITxxxxxS_THT; Supplier: https://www.xppower.com/pdfs/SF_ITX.pdf
footprint Converter_DCDC_XP_POWER-ITxxxxxS_THT
pins: 1 -Vin (power), 2 +Vin (power), 3 OnOff (in), 5 NC (in) hidden, 6 +Vout (power), 7 -Vout (power), 8 NC (in) hidden

## ITX0515SA-R
designator *  value ITX0515SA-R
ki_keywords: XP_POWER DC/DC isolated Converter module; ki_description: XP Power 6W, 1000 VDC Isolated DC/DC Converter Module, Remote Control, Fully Regulated Single Output Voltage 15V, ±400mA, 5V Input Voltage, SIP; ki_fp_filters: *XP?POWER?ITxxxxx*; Footprint: Converter_DCDC:Converter_DCDC_XP_POWER-ITxxxxxS_THT; Supplier: https://www.xppower.com/pdfs/SF_ITX.pdf
footprint Converter_DCDC_XP_POWER-ITxxxxxS_THT
pins: 1 -Vin (power), 2 +Vin (power), 3 OnOff (in), 5 NC (in) hidden, 6 +Vout (power), 7 -Vout (power), 8 NC (in) hidden

## ITX0524SA
designator *  value ITX0524SA
ki_keywords: XP_POWER DC/DC isolated Converter module; ki_description: XP Power 6W, 1000 VDC Isolated DC/DC Converter Module, Fully Regulated Single Output Voltage 24V, ±250mA, 5V Input Voltage, SIP; ki_fp_filters: *XP?POWER?ITXxxxxSA*; Footprint: Converter_DCDC:Converter_DCDC_XP_POWER-ITXxxxxSA_THT; Supplier: https://www.xppower.com/pdfs/SF_ITX.pdf
footprint Converter_DCDC_XP_POWER-ITXxxxxSA_THT
pins: 1 -Vin (power), 2 +Vin (power), 6 +Vout (power), 7 -Vout (power), 8 NC (in) hidden

## ITX0524SA-H
designator *  value ITX0524SA-H
ki_keywords: XP_POWER DC/DC isolated Converter module; ki_description: XP Power 6W, 3000 VDC Isolated DC/DC Converter Module, Fully Regulated Single Output Voltage 24V, ±250mA, 5V Input Voltage, SIP; ki_fp_filters: *XP?POWER?ITXxxxxSA*; Footprint: Converter_DCDC:Converter_DCDC_XP_POWER-ITXxxxxSA_THT; Supplier: https://www.xppower.com/pdfs/SF_ITX.pdf
footprint Converter_DCDC_XP_POWER-ITXxxxxSA_THT
pins: 1 -Vin (power), 2 +Vin (power), 6 +Vout (power), 7 -Vout (power), 8 NC (in) hidden

## ITX0524SA-HR
designator *  value ITX0524SA-HR
ki_keywords: XP_POWER DC/DC isolated Converter module; ki_description: XP Power 6W, 3000 VDC Isolated DC/DC Converter Module, Remote Control, Fully Regulated Single Output Voltage 24V, ±250mA, 5V Input Voltage, SIP; ki_fp_filters: *XP?POWER?ITxxxxx*; Footprint: Converter_DCDC:Converter_DCDC_XP_POWER-ITxxxxxS_THT; Supplier: https://www.xppower.com/pdfs/SF_ITX.pdf
footprint Converter_DCDC_XP_POWER-ITxxxxxS_THT
pins: 1 -Vin (power), 2 +Vin (power), 3 OnOff (in), 5 NC (in) hidden, 6 +Vout (power), 7 -Vout (power), 8 NC (in) hidden

## ITX0524SA-R
designator *  value ITX0524SA-R
ki_keywords: XP_POWER DC/DC isolated Converter module; ki_description: XP Power 6W, 1000 VDC Isolated DC/DC Converter Module, Remote Control, Fully Regulated Single Output Voltage 24V, ±250mA, 5V Input Voltage, SIP; ki_fp_filters: *XP?POWER?ITxxxxx*; Footprint: Converter_DCDC:Converter_DCDC_XP_POWER-ITxxxxxS_THT; Supplier: https://www.xppower.com/pdfs/SF_ITX.pdf
footprint Converter_DCDC_XP_POWER-ITxxxxxS_THT
pins: 1 -Vin (power), 2 +Vin (power), 3 OnOff (in), 5 NC (in) hidden, 6 +Vout (power), 7 -Vout (power), 8 NC (in) hidden

## ITX1203SA
designator *  value ITX1203SA
ki_keywords: XP_POWER DC/DC isolated Converter module; ki_description: XP Power 6W, 1000 VDC Isolated DC/DC Converter Module, Fully Regulated Single Output Voltage 3.3V, ±1300mA, 12V Input Voltage, SIP; ki_fp_filters: *XP?POWER?ITXxxxxSA*; Footprint: Converter_DCDC:Converter_DCDC_XP_POWER-ITXxxxxSA_THT; Supplier: https://www.xppower.com/pdfs/SF_ITX.pdf
footprint Converter_DCDC_XP_POWER-ITXxxxxSA_THT
pins: 1 -Vin (power), 2 +Vin (power), 6 +Vout (power), 7 -Vout (power), 8 NC (in) hidden

## ITX1203SA-H
designator *  value ITX1203SA-H
ki_keywords: XP_POWER DC/DC isolated Converter module; ki_description: XP Power 6W, 3000 VDC Isolated DC/DC Converter Module, Fully Regulated Single Output Voltage 3.3V, ±1300mA, 12V Input Voltage, SIP; ki_fp_filters: *XP?POWER?ITXxxxxSA*; Footprint: Converter_DCDC:Converter_DCDC_XP_POWER-ITXxxxxSA_THT; Supplier: https://www.xppower.com/pdfs/SF_ITX.pdf
footprint Converter_DCDC_XP_POWER-ITXxxxxSA_THT
pins: 1 -Vin (power), 2 +Vin (power), 6 +Vout (power), 7 -Vout (power), 8 NC (in) hidden

## ITX1203SA-HR
designator *  value ITX1203SA-HR
ki_keywords: XP_POWER DC/DC isolated Converter module; ki_description: XP Power 6W, 3000 VDC Isolated DC/DC Converter Module, Remote Control, Fully Regulated Single Output Voltage 3.3V, ±1300mA, 12V Input Voltage, SIP; ki_fp_filters: *XP?POWER?ITxxxxx*; Footprint: Converter_DCDC:Converter_DCDC_XP_POWER-ITxxxxxS_THT; Supplier: https://www.xppower.com/pdfs/SF_ITX.pdf
footprint Converter_DCDC_XP_POWER-ITxxxxxS_THT
pins: 1 -Vin (power), 2 +Vin (power), 3 OnOff (in), 5 NC (in) hidden, 6 +Vout (power), 7 -Vout (power), 8 NC (in) hidden

## ITX1203SA-R
designator *  value ITX1203SA-R
ki_keywords: XP_POWER DC/DC isolated Converter module; ki_description: XP Power 6W, 1000 VDC Isolated DC/DC Converter Module, Remote Control, Fully Regulated Single Output Voltage 3.3V, ±1300mA, 12V Input Voltage, SIP; ki_fp_filters: *XP?POWER?ITxxxxx*; Footprint: Converter_DCDC:Converter_DCDC_XP_POWER-ITxxxxxS_THT; Supplier: https://www.xppower.com/pdfs/SF_ITX.pdf
footprint Converter_DCDC_XP_POWER-ITxxxxxS_THT
pins: 1 -Vin (power), 2 +Vin (power), 3 OnOff (in), 5 NC (in) hidden, 6 +Vout (power), 7 -Vout (power), 8 NC (in) hidden

## ITX1205S
designator *  value ITX1205S
ki_keywords: XP_POWER DC/DC isolated Converter module; ki_description: XP Power 6W, 1000 VDC Isolated DC/DC Converter Module, Fully Regulated Dual Output Voltage ±5V, ±600mA, 12V Input Voltage, SIP; ki_fp_filters: *XP?POWER?ITxxxxx*; Footprint: Converter_DCDC:Converter_DCDC_XP_POWER-ITxxxxxS_THT; Supplier: https://www.xppower.com/pdfs/SF_ITX.pdf
footprint Converter_DCDC_XP_POWER-ITxxxxxS_THT
pins: 1 -Vin (power), 2 +Vin (power), 3 NC (in) hidden, 5 NC (in) hidden, 6 +Vout (power), 7 Common (power), 8 -Vout (power)

## ITX1205S-H
designator *  value ITX1205S-H
ki_keywords: XP_POWER DC/DC isolated Converter module; ki_description: XP Power 6W, 3000 VDC Isolated DC/DC Converter Module, Fully Regulated Dual Output Voltage ±5V, ±600mA, 12V Input Voltage, SIP; ki_fp_filters: *XP?POWER?ITxxxxx*; Footprint: Converter_DCDC:Converter_DCDC_XP_POWER-ITxxxxxS_THT; Supplier: https://www.xppower.com/pdfs/SF_ITX.pdf
footprint Converter_DCDC_XP_POWER-ITxxxxxS_THT
pins: 1 -Vin (power), 2 +Vin (power), 3 NC (in) hidden, 5 NC (in) hidden, 6 +Vout (power), 7 Common (power), 8 -Vout (power)

## ITX1205S-HR
designator *  value ITX1205S-HR
ki_keywords: XP_POWER DC/DC isolated Converter module; ki_description: XP Power 6W, 3000 VDC Isolated DC/DC Converter Module, Remote Control, Fully Regulated Dual Output Voltage ±5V, ±600mA, 12V Input Voltage, SIP; ki_fp_filters: *XP?POWER?ITxxxxx*; Footprint: Converter_DCDC:Converter_DCDC_XP_POWER-ITxxxxxS_THT; Supplier: https://www.xppower.com/pdfs/SF_ITX.pdf
footprint Converter_DCDC_XP_POWER-ITxxxxxS_THT
pins: 1 -Vin (power), 2 +Vin (power), 3 OnOff (in), 5 NC (in) hidden, 6 +Vout (power), 7 Common (power), 8 -Vout (power)

## ITX1205S-R
designator *  value ITX1205S-R
ki_keywords: XP_POWER DC/DC isolated Converter module; ki_description: XP Power 6W, 1000 VDC Isolated DC/DC Converter Module, Remote Control, Fully Regulated Dual Output Voltage ±5V, ±600mA, 12V Input Voltage, SIP; ki_fp_filters: *XP?POWER?ITxxxxx*; Footprint: Converter_DCDC:Converter_DCDC_XP_POWER-ITxxxxxS_THT; Supplier: https://www.xppower.com/pdfs/SF_ITX.pdf
footprint Converter_DCDC_XP_POWER-ITxxxxxS_THT
pins: 1 -Vin (power), 2 +Vin (power), 3 OnOff (in), 5 NC (in) hidden, 6 +Vout (power), 7 Common (power), 8 -Vout (power)

## ITX1205SA
designator *  value ITX1205SA
ki_keywords: XP_POWER DC/DC isolated Converter module; ki_description: XP Power 6W, 1000 VDC Isolated DC/DC Converter Module, Fully Regulated Single Output Voltage 5V, ±1200mA, 12V Input Voltage, SIP; ki_fp_filters: *XP?POWER?ITXxxxxSA*; Footprint: Converter_DCDC:Converter_DCDC_XP_POWER-ITXxxxxSA_THT; Supplier: https://www.xppower.com/pdfs/SF_ITX.pdf
footprint Converter_DCDC_XP_POWER-ITXxxxxSA_THT
pins: 1 -Vin (power), 2 +Vin (power), 6 +Vout (power), 7 -Vout (power), 8 NC (in) hidden

## ITX1205SA-H
designator *  value ITX1205SA-H
ki_keywords: XP_POWER DC/DC isolated Converter module; ki_description: XP Power 6W, 3000 VDC Isolated DC/DC Converter Module, Fully Regulated Single Output Voltage 5V, ±1200mA, 12V Input Voltage, SIP; ki_fp_filters: *XP?POWER?ITXxxxxSA*; Footprint: Converter_DCDC:Converter_DCDC_XP_POWER-ITXxxxxSA_THT; Supplier: https://www.xppower.com/pdfs/SF_ITX.pdf
footprint Converter_DCDC_XP_POWER-ITXxxxxSA_THT
pins: 1 -Vin (power), 2 +Vin (power), 6 +Vout (power), 7 -Vout (power), 8 NC (in) hidden

## ITX1205SA-HR
designator *  value ITX1205SA-HR
ki_keywords: XP_POWER DC/DC isolated Converter module; ki_description: XP Power 6W, 3000 VDC Isolated DC/DC Converter Module, Remote Control, Fully Regulated Single Output Voltage 5V, ±1200mA, 12V Input Voltage, SIP; ki_fp_filters: *XP?POWER?ITxxxxx*; Footprint: Converter_DCDC:Converter_DCDC_XP_POWER-ITxxxxxS_THT; Supplier: https://www.xppower.com/pdfs/SF_ITX.pdf
footprint Converter_DCDC_XP_POWER-ITxxxxxS_THT
pins: 1 -Vin (power), 2 +Vin (power), 3 OnOff (in), 5 NC (in) hidden, 6 +Vout (power), 7 -Vout (power), 8 NC (in) hidden

## ITX1205SA-R
designator *  value ITX1205SA-R
ki_keywords: XP_POWER DC/DC isolated Converter module; ki_description: XP Power 6W, 1000 VDC Isolated DC/DC Converter Module, Remote Control, Fully Regulated Single Output Voltage 5V, ±1200mA, 12V Input Voltage, SIP; ki_fp_filters: *XP?POWER?ITxxxxx*; Footprint: Converter_DCDC:Converter_DCDC_XP_POWER-ITxxxxxS_THT; Supplier: https://www.xppower.com/pdfs/SF_ITX.pdf
footprint Converter_DCDC_XP_POWER-ITxxxxxS_THT
pins: 1 -Vin (power), 2 +Vin (power), 3 OnOff (in), 5 NC (in) hidden, 6 +Vout (power), 7 -Vout (power), 8 NC (in) hidden

## ITX1209SA
designator *  value ITX1209SA
ki_keywords: XP_POWER DC/DC isolated Converter module; ki_description: XP Power 6W, 1000 VDC Isolated DC/DC Converter Module, Fully Regulated Single Output Voltage 9V, ±666mA, 12V Input Voltage, SIP; ki_fp_filters: *XP?POWER?ITXxxxxSA*; Footprint: Converter_DCDC:Converter_DCDC_XP_POWER-ITXxxxxSA_THT; Supplier: https://www.xppower.com/pdfs/SF_ITX.pdf
footprint Converter_DCDC_XP_POWER-ITXxxxxSA_THT
pins: 1 -Vin (power), 2 +Vin (power), 6 +Vout (power), 7 -Vout (power), 8 NC (in) hidden

## ITX1209SA-H
designator *  value ITX1209SA-H
ki_keywords: XP_POWER DC/DC isolated Converter module; ki_description: XP Power 6W, 3000 VDC Isolated DC/DC Converter Module, Fully Regulated Single Output Voltage 9V, ±666mA, 12V Input Voltage, SIP; ki_fp_filters: *XP?POWER?ITXxxxxSA*; Footprint: Converter_DCDC:Converter_DCDC_XP_POWER-ITXxxxxSA_THT; Supplier: https://www.xppower.com/pdfs/SF_ITX.pdf
footprint Converter_DCDC_XP_POWER-ITXxxxxSA_THT
pins: 1 -Vin (power), 2 +Vin (power), 6 +Vout (power), 7 -Vout (power), 8 NC (in) hidden

## ITX1209SA-HR
designator *  value ITX1209SA-HR
ki_keywords: XP_POWER DC/DC isolated Converter module; ki_description: XP Power 6W, 3000 VDC Isolated DC/DC Converter Module, Remote Control, Fully Regulated Single Output Voltage 9V, ±666mA, 12V Input Voltage, SIP; ki_fp_filters: *XP?POWER?ITxxxxx*; Footprint: Converter_DCDC:Converter_DCDC_XP_POWER-ITxxxxxS_THT; Supplier: https://www.xppower.com/pdfs/SF_ITX.pdf
footprint Converter_DCDC_XP_POWER-ITxxxxxS_THT
pins: 1 -Vin (power), 2 +Vin (power), 3 OnOff (in), 5 NC (in) hidden, 6 +Vout (power), 7 -Vout (power), 8 NC (in) hidden

## ITX1209SA-R
designator *  value ITX1209SA-R
ki_keywords: XP_POWER DC/DC isolated Converter module; ki_description: XP Power 6W, 1000 VDC Isolated DC/DC Converter Module, Remote Control, Fully Regulated Single Output Voltage 9V, ±666mA, 12V Input Voltage, SIP; ki_fp_filters: *XP?POWER?ITxxxxx*; Footprint: Converter_DCDC:Converter_DCDC_XP_POWER-ITxxxxxS_THT; Supplier: https://www.xppower.com/pdfs/SF_ITX.pdf
footprint Converter_DCDC_XP_POWER-ITxxxxxS_THT
pins: 1 -Vin (power), 2 +Vin (power), 3 OnOff (in), 5 NC (in) hidden, 6 +Vout (power), 7 -Vout (power), 8 NC (in) hidden

## ITX1212S
designator *  value ITX1212S
ki_keywords: XP_POWER DC/DC isolated Converter module; ki_description: XP Power 6W, 1000 VDC Isolated DC/DC Converter Module, Fully Regulated Dual Output Voltage ±12V, ±250mA, 12V Input Voltage, SIP; ki_fp_filters: *XP?POWER?ITxxxxx*; Footprint: Converter_DCDC:Converter_DCDC_XP_POWER-ITxxxxxS_THT; Supplier: https://www.xppower.com/pdfs/SF_ITX.pdf
footprint Converter_DCDC_XP_POWER-ITxxxxxS_THT
pins: 1 -Vin (power), 2 +Vin (power), 3 NC (in) hidden, 5 NC (in) hidden, 6 +Vout (power), 7 Common (power), 8 -Vout (power)

## ITX1212S-H
designator *  value ITX1212S-H
ki_keywords: XP_POWER DC/DC isolated Converter module; ki_description: XP Power 6W, 3000 VDC Isolated DC/DC Converter Module, Fully Regulated Dual Output Voltage ±12V, ±250mA, 12V Input Voltage, SIP; ki_fp_filters: *XP?POWER?ITxxxxx*; Footprint: Converter_DCDC:Converter_DCDC_XP_POWER-ITxxxxxS_THT; Supplier: https://www.xppower.com/pdfs/SF_ITX.pdf
footprint Converter_DCDC_XP_POWER-ITxxxxxS_THT
pins: 1 -Vin (power), 2 +Vin (power), 3 NC (in) hidden, 5 NC (in) hidden, 6 +Vout (power), 7 Common (power), 8 -Vout (power)

## ITX1212S-HR
designator *  value ITX1212S-HR
ki_keywords: XP_POWER DC/DC isolated Converter module; ki_description: XP Power 6W, 3000 VDC Isolated DC/DC Converter Module, Remote Control, Fully Regulated Dual Output Voltage ±12V, ±250mA, 12V Input Voltage, SIP; ki_fp_filters: *XP?POWER?ITxxxxx*; Footprint: Converter_DCDC:Converter_DCDC_XP_POWER-ITxxxxxS_THT; Supplier: https://www.xppower.com/pdfs/SF_ITX.pdf
footprint Converter_DCDC_XP_POWER-ITxxxxxS_THT
pins: 1 -Vin (power), 2 +Vin (power), 3 OnOff (in), 5 NC (in) hidden, 6 +Vout (power), 7 Common (power), 8 -Vout (power)

## ITX1212S-R
designator *  value ITX1212S-R
ki_keywords: XP_POWER DC/DC isolated Converter module; ki_description: XP Power 6W, 1000 VDC Isolated DC/DC Converter Module, Remote Control, Fully Regulated Dual Output Voltage ±12V, ±250mA, 12V Input Voltage, SIP; ki_fp_filters: *XP?POWER?ITxxxxx*; Footprint: Converter_DCDC:Converter_DCDC_XP_POWER-ITxxxxxS_THT; Supplier: https://www.xppower.com/pdfs/SF_ITX.pdf
footprint Converter_DCDC_XP_POWER-ITxxxxxS_THT
pins: 1 -Vin (power), 2 +Vin (power), 3 OnOff (in), 5 NC (in) hidden, 6 +Vout (power), 7 Common (power), 8 -Vout (power)

## ITX1212SA
designator *  value ITX1212SA
ki_keywords: XP_POWER DC/DC isolated Converter module; ki_description: XP Power 6W, 1000 VDC Isolated DC/DC Converter Module, Fully Regulated Single Output Voltage 12V, ±500mA, 12V Input Voltage, SIP; ki_fp_filters: *XP?POWER?ITXxxxxSA*; Footprint: Converter_DCDC:Converter_DCDC_XP_POWER-ITXxxxxSA_THT; Supplier: https://www.xppower.com/pdfs/SF_ITX.pdf
footprint Converter_DCDC_XP_POWER-ITXxxxxSA_THT
pins: 1 -Vin (power), 2 +Vin (power), 6 +Vout (power), 7 -Vout (power), 8 NC (in) hidden

## ITX1212SA-H
designator *  value ITX1212SA-H
ki_keywords: XP_POWER DC/DC isolated Converter module; ki_description: XP Power 6W, 3000 VDC Isolated DC/DC Converter Module, Fully Regulated Single Output Voltage 12V, ±500mA, 12V Input Voltage, SIP; ki_fp_filters: *XP?POWER?ITXxxxxSA*; Footprint: Converter_DCDC:Converter_DCDC_XP_POWER-ITXxxxxSA_THT; Supplier: https://www.xppower.com/pdfs/SF_ITX.pdf
footprint Converter_DCDC_XP_POWER-ITXxxxxSA_THT
pins: 1 -Vin (power), 2 +Vin (power), 6 +Vout (power), 7 -Vout (power), 8 NC (in) hidden

## ITX1212SA-HR
designator *  value ITX1212SA-HR
ki_keywords: XP_POWER DC/DC isolated Converter module; ki_description: XP Power 6W, 3000 VDC Isolated DC/DC Converter Module, Remote Control, Fully Regulated Single Output Voltage 12V, ±500mA, 12V Input Voltage, SIP; ki_fp_filters: *XP?POWER?ITxxxxx*; Footprint: Converter_DCDC:Converter_DCDC_XP_POWER-ITxxxxxS_THT; Supplier: https://www.xppower.com/pdfs/SF_ITX.pdf
footprint Converter_DCDC_XP_POWER-ITxxxxxS_THT
pins: 1 -Vin (power), 2 +Vin (power), 3 OnOff (in), 5 NC (in) hidden, 6 +Vout (power), 7 -Vout (power), 8 NC (in) hidden

## ITX1212SA-R
designator *  value ITX1212SA-R
ki_keywords: XP_POWER DC/DC isolated Converter module; ki_description: XP Power 6W, 1000 VDC Isolated DC/DC Converter Module, Remote Control, Fully Regulated Single Output Voltage 12V, ±500mA, 12V Input Voltage, SIP; ki_fp_filters: *XP?POWER?ITxxxxx*; Footprint: Converter_DCDC:Converter_DCDC_XP_POWER-ITxxxxxS_THT; Supplier: https://www.xppower.com/pdfs/SF_ITX.pdf
footprint Converter_DCDC_XP_POWER-ITxxxxxS_THT
pins: 1 -Vin (power), 2 +Vin (power), 3 OnOff (in), 5 NC (in) hidden, 6 +Vout (power), 7 -Vout (power), 8 NC (in) hidden

## ITX1215S
designator *  value ITX1215S
ki_keywords: XP_POWER DC/DC isolated Converter module; ki_description: XP Power 6W, 1000 VDC Isolated DC/DC Converter Module, Fully Regulated Dual Output Voltage ±15V, ±200mA, 12V Input Voltage, SIP; ki_fp_filters: *XP?POWER?ITxxxxx*; Footprint: Converter_DCDC:Converter_DCDC_XP_POWER-ITxxxxxS_THT; Supplier: https://www.xppower.com/pdfs/SF_ITX.pdf
footprint Converter_DCDC_XP_POWER-ITxxxxxS_THT
pins: 1 -Vin (power), 2 +Vin (power), 3 NC (in) hidden, 5 NC (in) hidden, 6 +Vout (power), 7 Common (power), 8 -Vout (power)

## ITX1215S-H
designator *  value ITX1215S-H
ki_keywords: XP_POWER DC/DC isolated Converter module; ki_description: XP Power 6W, 3000 VDC Isolated DC/DC Converter Module, Fully Regulated Dual Output Voltage ±15V, ±200mA, 12V Input Voltage, SIP; ki_fp_filters: *XP?POWER?ITxxxxx*; Footprint: Converter_DCDC:Converter_DCDC_XP_POWER-ITxxxxxS_THT; Supplier: https://www.xppower.com/pdfs/SF_ITX.pdf
footprint Converter_DCDC_XP_POWER-ITxxxxxS_THT
pins: 1 -Vin (power), 2 +Vin (power), 3 NC (in) hidden, 5 NC (in) hidden, 6 +Vout (power), 7 Common (power), 8 -Vout (power)

## ITX1215S-HR
designator *  value ITX1215S-HR
ki_keywords: XP_POWER DC/DC isolated Converter module; ki_description: XP Power 6W, 3000 VDC Isolated DC/DC Converter Module, Remote Control, Fully Regulated Dual Output Voltage ±15V, ±200mA, 12V Input Voltage, SIP; ki_fp_filters: *XP?POWER?ITxxxxx*; Footprint: Converter_DCDC:Converter_DCDC_XP_POWER-ITxxxxxS_THT; Supplier: https://www.xppower.com/pdfs/SF_ITX.pdf
footprint Converter_DCDC_XP_POWER-ITxxxxxS_THT
pins: 1 -Vin (power), 2 +Vin (power), 3 OnOff (in), 5 NC (in) hidden, 6 +Vout (power), 7 Common (power), 8 -Vout (power)

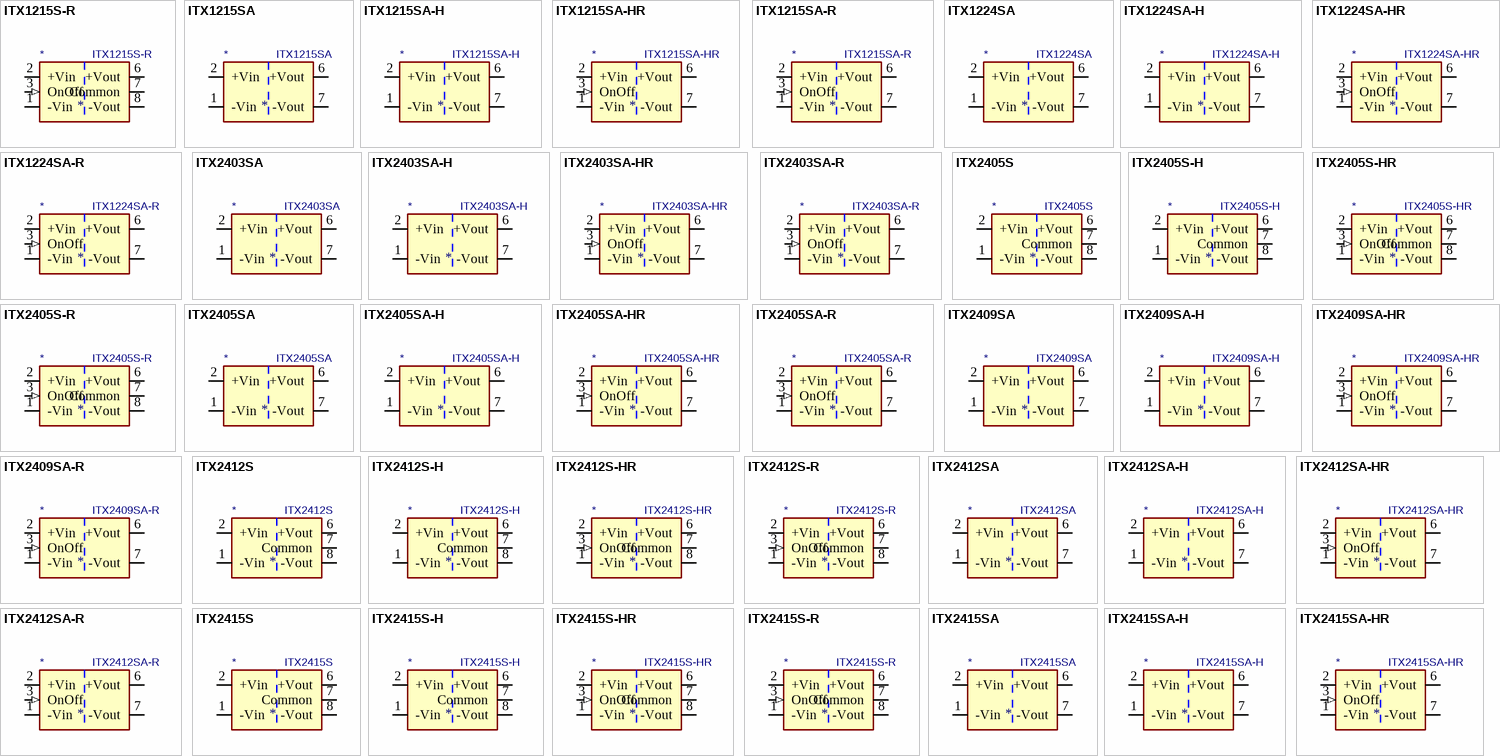
[diagram p7: symbols ITX1215S-R to ITX2415SA-HR]

## ITX1215S-R
designator *  value ITX1215S-R
ki_keywords: XP_POWER DC/DC isolated Converter module; ki_description: XP Power 6W, 1000 VDC Isolated DC/DC Converter Module, Remote Control, Fully Regulated Dual Output Voltage ±15V, ±200mA, 12V Input Voltage, SIP; ki_fp_filters: *XP?POWER?ITxxxxx*; Footprint: Converter_DCDC:Converter_DCDC_XP_POWER-ITxxxxxS_THT; Supplier: https://www.xppower.com/pdfs/SF_ITX.pdf
footprint Converter_DCDC_XP_POWER-ITxxxxxS_THT
pins: 1 -Vin (power), 2 +Vin (power), 3 OnOff (in), 5 NC (in) hidden, 6 +Vout (power), 7 Common (power), 8 -Vout (power)